# Altium schematic symbol library 532610671.SchLib: 1 symbol
Pins are listed as number, name and electrical type; pins without a type are passive.

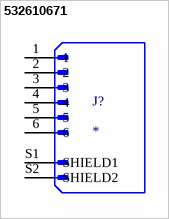
[diagram p0: symbol 532610671]

## 532610671
designator J?
Conn Shrouded Header (4 Sides) HDR 6 POS 1.25mm Solder RA Side Entry SMD PicoBladeâ„¢ T/R; MF: Molex; MP: 532610671; SnapEDA_Link: https://www.snapeda.com/parts/532610671/Molex/view-part/6379096/?ref=snap; Value: *; Purchase-URL: https://pricing.snapeda.com/search/part/532610671/?ref=eda; Check_prices: https://www.snapeda.com/parts/532610671/Molex/view-part/6379096/?ref=eda; Digi-Key_Part_Number: WM7624CT-ND; Package: None
footprint MOLEX_532610671
pins: 1, 2, 3, 4, 5, 6, S1 SHIELD1, S2 SHIELD2